# Altium footprint library OSSI.PCBLIB: 194 footprints (part 13 of 13)
Each footprint in its own frame and in the unit in brackets; x right, y up, seen from the top. Pads: shape width x height; smd on the part's side, far side on the other; paste and mask are expansions set on the pad; w line width, h text height; cw(c..) or ccw(c..) is an arc to the next point about the centre after c.
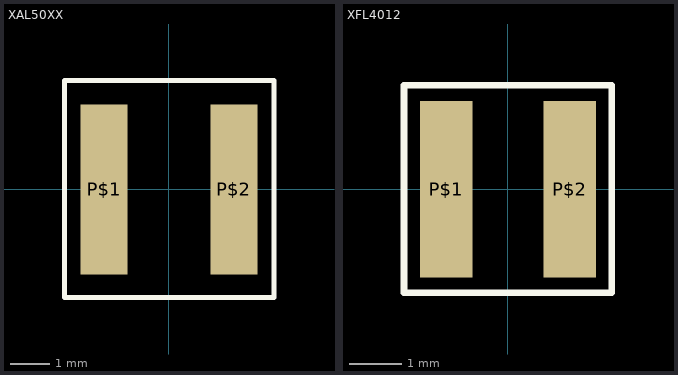
[diagram p12: the footprints below, top view; thin cyan lines are the x and y axes]

## XAL50XX [mil]
pads (2):
  rect 47x170 smd: P$1(-64.96,0) P$2(65,0)
Top Overlay:
  lines w5: -104.33,-108.27 105,-108.27 105,109 -104.33,109 -104.33,-108.27
Mechanical 2:
  text ">NAME" at -129.92,130 h77.5
Mechanical 4:
  text ">VALUE" at -129.92,-194.88 h77.5

## XFL4012 [mil]
pads (2):
  rect 40x134 smd: P$1(-46.65,0) P$2(47,0)
Top Overlay:
  lines w5: -78.74,-78.74 79,-78.74 79,79 -78.74,79 -78.74,-78.74
Mechanical 2:
  text ">NAME" at -125,100 h77.5
Mechanical 4:
  text ">VALUE" at -125,-150 h77.5